# Altium schematic symbol library Schlib.SchLib: 11 symbols
Pins are listed as number, name and electrical type; pins without a type are passive.

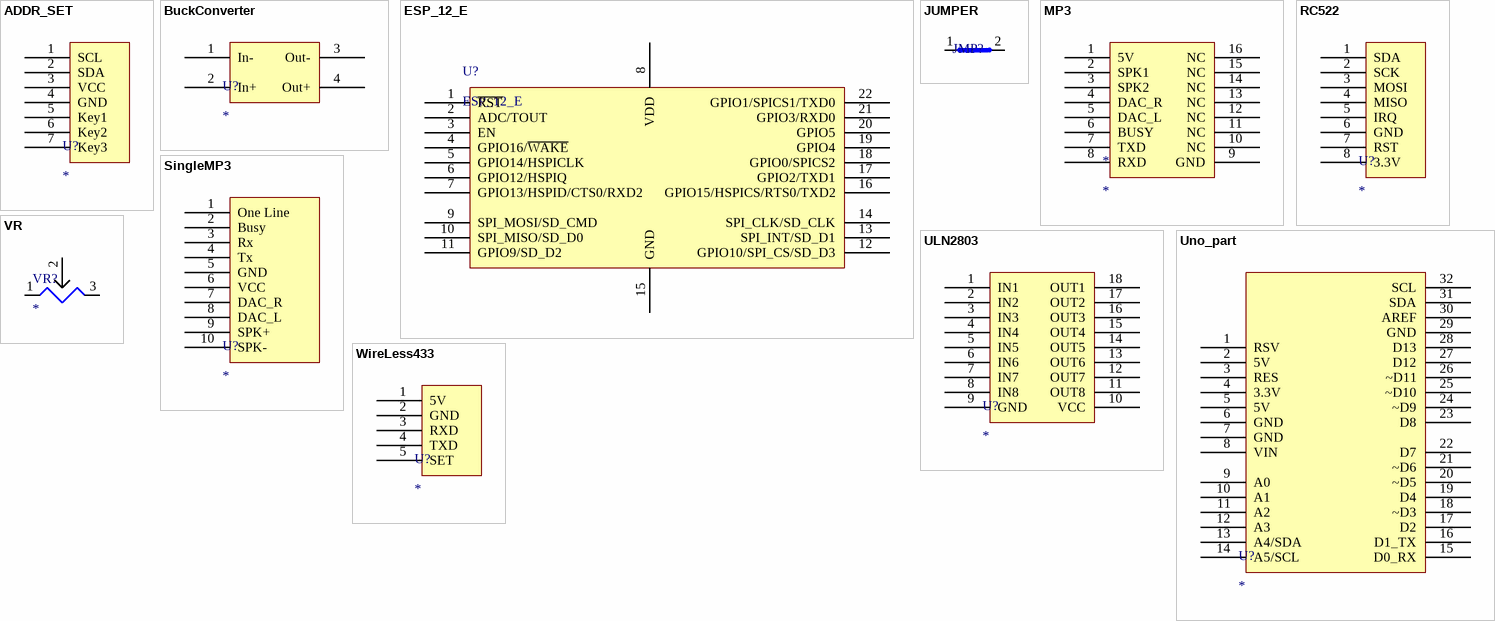
[diagram p0: symbols ADDR_SET to WireLess433]

## ADDR_SET
designator U?
footprint HDR1X7 (Connector; Header; 7 Position)
pins: 1 SCL, 2 SDA, 3 VCC, 4 GND, 5 Key1, 6 Key2, 7 Key3

## BuckConverter
designator U?
footprint BuckConverter
pins: 1 In-, 2 In+, 3 Out-, 4 Out+

## ESP_12_E
designator U?
ESP-12 Wi-Fi Module by AI-Thinker; IC: ESP8266-EX; Vendor: Ai-thinker
footprint ESP_12_E (ESP-12 Wi-Fi Module by AI-Thinker)
pins: 1 ~{RST} "Reset", 2 ADC/TOUT "ADC Input Or TOUT Output", 3 EN "Chip enable", 4 GPIO16/~{WAKE} "GPIO16 or Deep-Sleep Wakeup", 5 GPIO14/HSPICLK "GPIO14 or SPI CLK", 6 GPIO12/HSPIQ "GPIO12 or SPIQ", 7 GPIO13/HSPID/CTS0/RXD2 "GPIO13 or SPID", 8 VDD "Power supply", 9 SPI_MOSI/SD_CMD "GPIO14 or SPI CLK", 10 SPI_MISO/SD_D0 "GPIO12 or SPIQ", 11 GPIO9/SD_D2 "GPIO13 or SPID", 12 GPIO10/SPI_CS/SD_D3 "GPIO15 or SPICS", 13 SPI_INT/SD_D1 "GPIO2 or TX", 14 SPI_CLK/SD_CLK "GPIO0 or SPICS2", 15 GND "Power ground", 16 GPIO15/HSPICS/RTS0/TXD2 "GPIO15 or SPICS", 17 GPIO2/TXD1 "GPIO2 or TX", 18 GPIO0/SPICS2 "GPIO0 or SPICS2", 19 GPIO4 "GPIO5", 20 GPIO5 "GPIO4", 21 GPIO3/RXD0 "GPIO3 or UART RXD", 22 GPIO1/SPICS1/TXD0 "GPIO1 or UART TXD"

## JUMPER
designator JMP?  (value not drawn)
footprint HDR1X2 (Connector; Header; 2 Position)
pins: 1 I, 2 O

## MP3
designator *
footprint MP3
pins: 1 5V, 2 SPK1, 3 SPK2, 4 DAC_R, 5 DAC_L, 6 BUSY, 7 TXD, 8 RXD, 9 GND, 10 NC, 11 NC, 12 NC, 13 NC, 14 NC, 15 NC, 16 NC

## RC522
designator U?
footprint HDR1X8 (Connector; Header; 8 Position)
pins: 1 SDA, 2 SCK, 3 MOSI, 4 MISO, 5 IRQ, 6 GND, 7 RST, 8 3.3V

## SingleMP3
designator U?
footprint HDR1X10 (Connector; Header; 10 Position)
pins: 1 One Line, 2 Busy, 3 Rx, 4 Tx, 5 GND, 6 VCC, 7 DAC_R, 8 DAC_L, 9 SPK+, 10 SPK-

## ULN2803
designator U?
pins: 1 IN1, 2 IN2, 3 IN3, 4 IN4, 5 IN5, 6 IN6, 7 IN7, 8 IN8, 9 GND, 10 VCC, 11 OUT8, 12 OUT7, 13 OUT6, 14 OUT5, 15 OUT4, 16 OUT3, 17 OUT2, 18 OUT1

## Uno_part
designator U?
footprint UNO
pins: 1 RSV, 2 5V, 3 RES, 4 3.3V, 5 5V, 6 GND, 7 GND, 8 VIN, 9 A0, 10 A1, 11 A2, 12 A3, 13 A4/SDA, 14 A5/SCL, 15 D0_RX, 16 D1_TX, 17 D2, 18 ~D3, 19 D4, 20 ~D5, 21 ~D6, 22 D7, 23 D8, 24 ~D9, 25 ~D10, 26 ~D11, 27 D12, 28 D13, 29 GND, 30 AREF, 31 SDA, 32 SCL

## VR
designator VR?
pins: 1 NC, 2 NC, 3 NC

## WireLess433
designator U?
footprint HDR1X5 (Connector; Header; 5 Position)
pins: 1 5V, 2 GND, 3 RXD, 4 TXD, 5 SET